# Altium footprint library IntegratedCircuit.PcbLib: 22 footprints (part 2 of 2)
Each footprint in its own frame and in the unit in brackets; x right, y up, seen from the top. Pads: shape width x height; smd on the part's side, far side on the other; paste and mask are expansions set on the pad; w line width, h text height; cw(c..) or ccw(c..) is an arc to the next point about the centre after c.
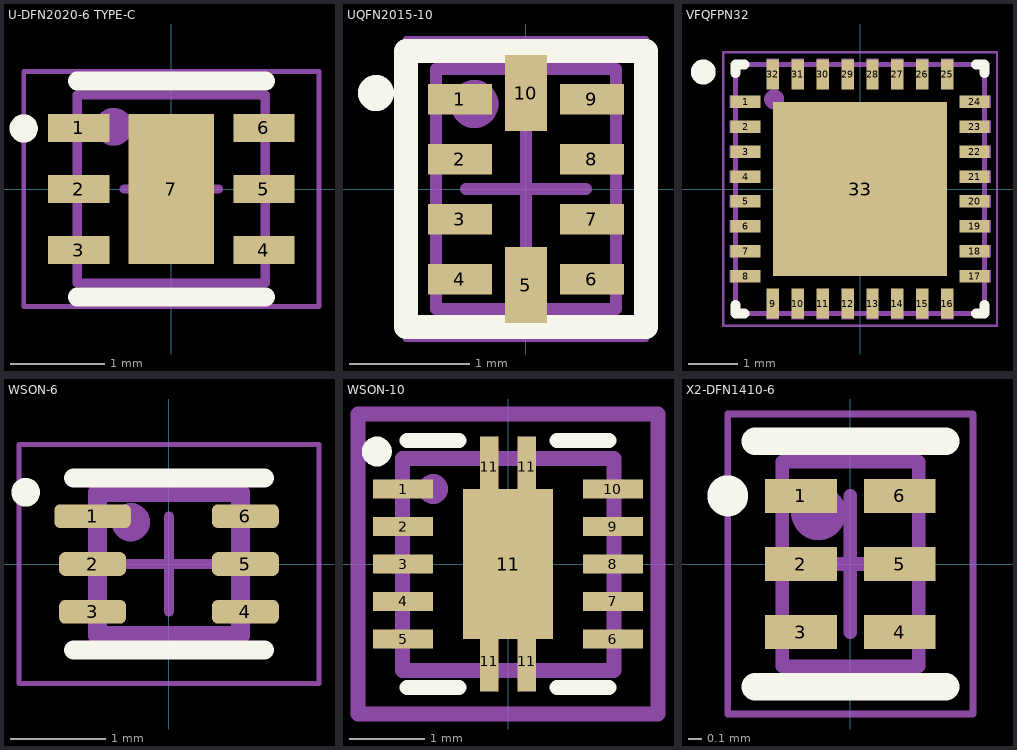
[diagram p1: the footprints below, top view; thin cyan lines are the x and y axes]

## U-DFN2020-6 TYPE-C [mm] "SON, 6-Leads, Body 1.98x1.98mm, Pitch 0.65mm, Thermal Pad 1.60x0.91mm, IPC Medium Density"
height 0.6
pads (7):
  rect 0.65x0.3 smd: 1(-0.985,0.65) 2(-0.985,0) 3(-0.985,-0.65) 4(0.985,-0.65) 5(0.985,0) 6(0.985,0.65)
  rect 0.91x1.6 smd: 7(0,0)
Top Overlay:
  circle w0.2: c-1.57,0.644 r0.05
  lines w0.2: -1,1.15 1,1.15 ; -0.76,-1.15 -1,-1.15 1,-1.15
Mechanical 13:
  circle w0.3: c-0.614,0.661 r0.05
  region: 1.115,0.8 1,0.8 1,0.5 1.115,0.5
  region: 1.115,0.15 1,0.15 1,-0.15 1.115,-0.15
  region: 1.115,-0.5 1,-0.5 1,-0.8 1.115,-0.8
  rectangle: -1.115,-0.8 -1,-0.5
  rectangle: -1.115,-0.15 -1,0.15
  rectangle: -1.115,0.5 -1,0.8
  lines w0.1: -1,-1 -1,1 1,1 1,-1 -1,-1
  text ".Designator" at 0.124,-1.999 h0.4
Mechanical 15:
  lines w0.05: -1.57,-1.25 -1.57,1.25 1.57,1.25 1.57,-1.25 -1.57,-1.25
  lines w0.1: -0.5,0 0.5,0 ; 0,-0.5 0,0.5
3D body "SON65P200X60_HS-7N.step": height 0.6, standoff 0, extent -1.05,-1 1.05,1

## UQFN2015-10 [mm] "SON, 6-Leads, Body 1.98x1.98mm, Pitch 0.65mm, Thermal Pad 1.60x0.91mm, IPC Medium Density"
height 0.6
pads (10):
  rect 0.53x0.254 smd: 1(-0.55,0.75) 2(-0.55,0.25) 3(-0.55,-0.25) 4(-0.55,-0.75) 6(0.55,-0.75) 7(0.55,-0.25) 8(0.55,0.25) 9(0.55,0.75)
  rect 0.35x0.63 smd: 5(0,-0.8) 10(0,0.8)
Top Overlay:
  circle w0.2: c-1.25,0.8 r0.05
  lines w0.2: -0.76,-1.15 -1,-1.15 ; -1,-1.15 1,-1.15 1,1.15 -1,1.15 -1,-1.15
Mechanical 13:
  circle w0.3: c-0.429,0.708 r0.05
  region: 0.813,0.828 0.75,0.828 0.75,0.672 0.813,0.672
  region: 0.813,0.328 0.75,0.328 0.75,0.172 0.813,0.172
  region: 0.813,-0.172 0.75,-0.172 0.75,-0.328 0.813,-0.328
  region: 0.813,-0.672 0.75,-0.672 0.75,-0.828 0.813,-0.828
  rectangle: -0.814,-0.828 -0.75,-0.672
  rectangle: -0.814,-0.328 -0.75,-0.172
  rectangle: -0.814,0.172 -0.75,0.328
  rectangle: -0.814,0.672 -0.75,0.828
  lines w0.1: -0.75,-1 0.75,-1 0.75,1 -0.75,1 -0.75,-1
  text ".Designator" at 0.124,-1.999 h0.4
Mechanical 15:
  lines w0.05: -1,-1.25 1,-1.25 1,1.25 -1,1.25 -1,-1.25
  lines w0.1: -0.5,0 0.5,0 ; 0,-0.5 0,0.5
3D body "10-UQFN v1.step": height 0.64, standoff 0.01, extent -0.75,-1 0.75,1

## VFQFPN32 [mm] "PQFN, 32-Leads, Body 5.00x5.00mm, Pitch 0.50mm, Thermal Pad 3.50x3.50mm, IPC Medium Density"
height 1
pads (65):
  rect 0.6x0.25 smd: 1(-2.3,1.75) 2(-2.3,1.25) 3(-2.3,0.75) 4(-2.3,0.25) 5(-2.3,-0.25) 6(-2.3,-0.75) 7(-2.3,-1.25) 8(-2.3,-1.75) 17(2.3,-1.75) 18(2.3,-1.25) 19(2.3,-0.75) 20(2.3,-0.25) 21(2.3,0.25) 22(2.3,0.75) 23(2.3,1.25) 24(2.3,1.75)
  rect 0.25x0.6 smd: 9(-1.75,-2.3) 10(-1.25,-2.3) 11(-0.75,-2.3) 12(-0.25,-2.3) 13(0.25,-2.3) 14(0.75,-2.3) 15(1.25,-2.3) 16(1.75,-2.3) 25(1.75,2.3) 26(1.25,2.3) 27(0.75,2.3) 28(0.25,2.3) 29(-0.25,2.3) 30(-0.75,2.3) 31(-1.25,2.3) 32(-1.75,2.3)
  rect 3.5x3.5 smd: 33(0,0)
  rect 0.15x0.25 on Mech13: ""(-2.55,-1.75) ""(-2.55,-1.25) ""(-2.55,-0.75) ""(-2.55,-0.25) ""(-2.55,0.25) ""(-2.55,0.75) ""(-2.55,1.25) ""(-2.55,1.75) ""(2.55,-1.75) ""(2.55,-1.25) ""(2.55,-0.75) ""(2.55,-0.25) ""(2.55,0.25) ""(2.55,0.75) ""(2.55,1.25) ""(2.55,1.75)
  rect 0.25x0.15 on Mech13: ""(-1.75,-2.55) ""(-1.75,2.55) ""(-1.25,-2.55) ""(-1.25,2.55) ""(-0.75,-2.55) ""(-0.75,2.55) ""(-0.25,-2.55) ""(-0.25,2.55) ""(0.25,-2.55) ""(0.25,2.55) ""(0.75,-2.55) ""(0.75,2.55) ""(1.25,-2.55) ""(1.25,2.55) ""(1.75,-2.55) ""(1.75,2.55)
Top Overlay:
  circle w0.25: c-3.15,2.35 r0.125
  lines w0.2: -2.5,-2.325 -2.5,-2.5 -2.325,-2.5 ; -2.5,2.325 -2.5,2.5 -2.325,2.5 ; 2.325,-2.5 2.5,-2.5 2.5,-2.325 ; 2.325,2.5 2.5,2.5 2.5,2.325
Mechanical 13:
  circle w0.3: c-1.725,1.8 r0.05
  lines w0.1: -2.5,-2.5 2.5,-2.5 2.5,2.5 -2.5,2.5 -2.5,-2.5
  text ".Designator" at -3.749,-0.25 h0.75
Mechanical 15:
  lines w0.05: -2.75,-2.75 2.75,-2.75 2.75,2.75 -2.75,2.75 -2.75,-2.75
  lines w0.1: -0.5,0 0.5,0 ; 0,-0.5 0,0.5
3D body "PQFN50P500X500X100_HS-33N.step": height 1, standoff 0, extent -2.5,-2.5 2.5,2.5

## WSON-6 [mm] "SON, 6-Leads, Body 1.98x1.98mm, Pitch 0.65mm, Thermal Pad 1.60x0.91mm, IPC Medium Density"
height 0.6
pads (6):
  rrect50% 0.8x0.25 smd: 1(-0.8,0.5)
  rrect50% 0.7x0.25 smd: 2(-0.8,0) 3(-0.8,-0.5) 4(0.8,-0.5) 5(0.8,0) 6(0.8,0.5)
Top Overlay:
  circle w0.2: c-1.5,0.75 r0.05
  lines w0.2: -1,-0.9 1,-0.9 ; -1,0.9 1,0.9
Mechanical 13:
  circle w0.3: c-0.4,0.437 r0.05
  lines w0.2: -0.75,-0.75 0.75,-0.75 0.75,0.75 -0.75,0.75 -0.75,-0.75
  text ".Designator" at -1.25,-0.083 h0.25
Mechanical 15:
  lines w0.05: -1.57,-1.25 -1.57,1.25 1.57,1.25 1.57,-1.25 -1.57,-1.25
  lines w0.1: -0.5,0 0.5,0 ; 0,-0.5 0,0.5
3D body "User Library-WSON6.step": height 0.81, standoff 0.01, extent -0.775,-0.75 0.775,0.75

## WSON-10 [mm]
pads (15):
  rect 0.8x0.25 smd mask+0.07: 1(-1.4,1) 2(-1.4,0.5) 3(-1.4,0) 4(-1.4,-0.5) 5(-1.4,-1) 6(1.4,-1) 7(1.4,-0.5) 8(1.4,0) 9(1.4,0.5) 10(1.4,1)
  rect 0.25x0.8 smd mask+0.07: 11(-0.25,-1.3) 11(-0.25,1.3) 11(0.25,-1.3) 11(0.25,1.3)
  rect 1.2x2 smd mask+0.07: 11(0,0)
Top Overlay:
  circle w0.2: c-1.75,1.5 r0.1
  lines w0.2: -1.35,-1.65 -0.65,-1.65 ; -1.35,1.65 -0.65,1.65 ; 0.65,-1.65 1.35,-1.65 ; 0.65,1.65 1.35,1.65
Mechanical 13:
  circle w0.2: c-1,1 r0.1
  region: 1.548,1.127 1.4,1.127 1.4,0.875 1.548,0.875
  region: 1.548,0.627 1.4,0.627 1.4,0.375 1.548,0.375
  region: 1.56,0.124 1.412,0.124 1.412,-0.127 1.56,-0.127
  region: 1.548,-0.373 1.4,-0.373 1.4,-0.625 1.548,-0.625
  region: 1.548,-0.873 1.4,-0.873 1.4,-1.125 1.548,-1.125
  rectangle: -1.548,-1.127 -1.4,-0.875
  rectangle: -1.548,-0.627 -1.4,-0.375
  rectangle: -1.548,-0.127 -1.4,0.125
  rectangle: -1.548,0.373 -1.4,0.625
  rectangle: -1.548,0.873 -1.4,1.125
  rectangle: -0.376,1.3 -0.125,1.551
  rectangle: 0.124,1.3 0.375,1.551
  region: -0.124,-1.331 -0.375,-1.331 -0.375,-1.551 -0.124,-1.551
  region: 0.376,-1.337 0.125,-1.337 0.125,-1.551 0.376,-1.551
  lines w0.2: -1.407,-1.417 -1.407,1.404 1.412,1.404 1.412,-1.417 -1.407,-1.417
Mechanical 15:
  lines w0.2: -0.5,0 0.5,0 ; 0,-0.5 0,0.5 ; -2,-2 2,-2 2,2 -2,2 -2,-2
3D body "WSON-10.STEP": height 0.81, standoff 0.01, extent -1.55,-1.55 1.55,1.55

## X2-DFN1410-6 [mm] "SON, 6-Leads, Body 1.98x1.98mm, Pitch 0.65mm, Thermal Pad 1.60x0.91mm, IPC Medium Density"
height 0.6
pads (6):
  rect 0.525x0.25 smd: 1(-0.363,0.5) 2(-0.363,0) 3(-0.363,-0.5) 4(0.363,-0.5) 5(0.363,0) 6(0.363,0.5)
Top Overlay:
  circle w0.2: c-0.9,0.5 r0.05
  lines w0.2: -0.7,-0.9 0.7,-0.9 ; -0.7,0.9 0.7,0.9
Mechanical 13:
  circle w0.3: c-0.234,0.375 r0.05
  region: 0.567,0.625 0.481,0.625 0.481,0.375 0.567,0.375
  region: 0.567,0.125 0.481,0.125 0.481,-0.125 0.567,-0.125
  region: 0.567,-0.375 0.481,-0.375 0.481,-0.625 0.567,-0.625
  rectangle: -0.567,-0.625 -0.481,-0.375
  rectangle: -0.567,-0.125 -0.481,0.125
  rectangle: -0.567,0.375 -0.481,0.625
  lines w0.1: -0.5,-0.75 -0.5,0.75 0.5,0.75 0.5,-0.75 -0.5,-0.75
  text ".Designator" at 0.2,-1.5 h0.3
Mechanical 15:
  lines w0.05: -0.9,-1.1 -0.9,1.1 0.9,1.1 0.9,-1.1 -0.9,-1.1
  lines w0.1: -0.5,0 0.5,0 ; 0,-0.5 0,0.5
3D body "DFN1410H4-6 v1.step": height 0.39, standoff 0, extent -0.5,-0.7 0.5,0.7